# EAGLE library part HIF3FB-20DA-2.54DSA (library h8-conector)
Hirose Connector HIF3FB-20DA-2.54DSA(71) Can be used with 2.54mm Hirose ML Connector Documentary and Datasheet: https://www.hirose.com/product/en/products/HIF3FC/HIF3FB%2D10DA%2D2.54DSA%2871%29/ Created by Hans Achterbahn (https://github.com/HansAchterbahn)
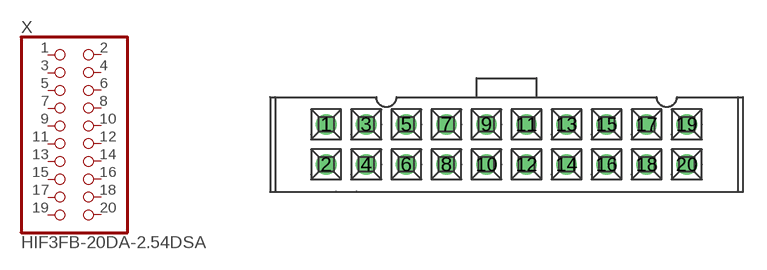
[diagram p2: symbol with the pads of HIF3FB-20DA-2.54DSA; footprint HIF3FB-20DA-2.54DSA]

Designator prefix X

## HIF3FB-20DA-2.54DSA (DATASHEET: https://www.hirose.com/product/en/products/HIF3FC/HIF3FB%2D10DA%2D2.54DSA%2871%29/; MF: Hirose; MFN: HIF3FB-20DA-2.54DSA; MOUSER: 798-HIF3FB20DA254DSA; RS-ONLINE: 608-1392)  [HIF3FB-20DA-2.54DSA]
1  1  pas
2  2  pas
3  3  pas
4  4  pas
5  5  pas
6  6  pas
7  7  pas
8  8  pas
9  9  pas
10  10  pas
11  11  pas
12  12  pas
13  13  pas
14  14  pas
15  15  pas
16  16  pas
17  17  pas
18  18  pas
19  19  pas
20  20  pas

## Footprint HIF3FB-20DA-2.54DSA (pad centres in mm)
Hirose Connector HIF3FB-20DA-2.54DSA(71) Can be used with 2.54mm Hirose ML Connector Documentary and Datasheet: https://www.hirose.com/product/en/products/HIF3FC/HIF3FB%2D10DA%2D2.54DSA%2871%29/ Created by Hans Achterbahn (https://github.com/HansAchterbahn)
drill 0.8: 1 3.552,4.267; 2 3.552,1.727; 3 6.092,4.267; 4 6.092,1.727; 5 8.632,4.267; 6 8.632,1.727; 7 11.172,4.267; 8 11.172,1.727; 9 13.712,4.267; 10 13.712,1.727; 11 16.252,4.267; 12 16.252,1.727; 13 18.792,4.267; 14 18.792,1.727; 15 21.332,4.267; 16 21.332,1.727; 17 23.872,4.267; 18 23.872,1.727; 19 26.412,4.267; 20 26.412,1.727